# EAGLE library part POCKETBEAGLE (library OneHandedPiano)
PocketBeagle
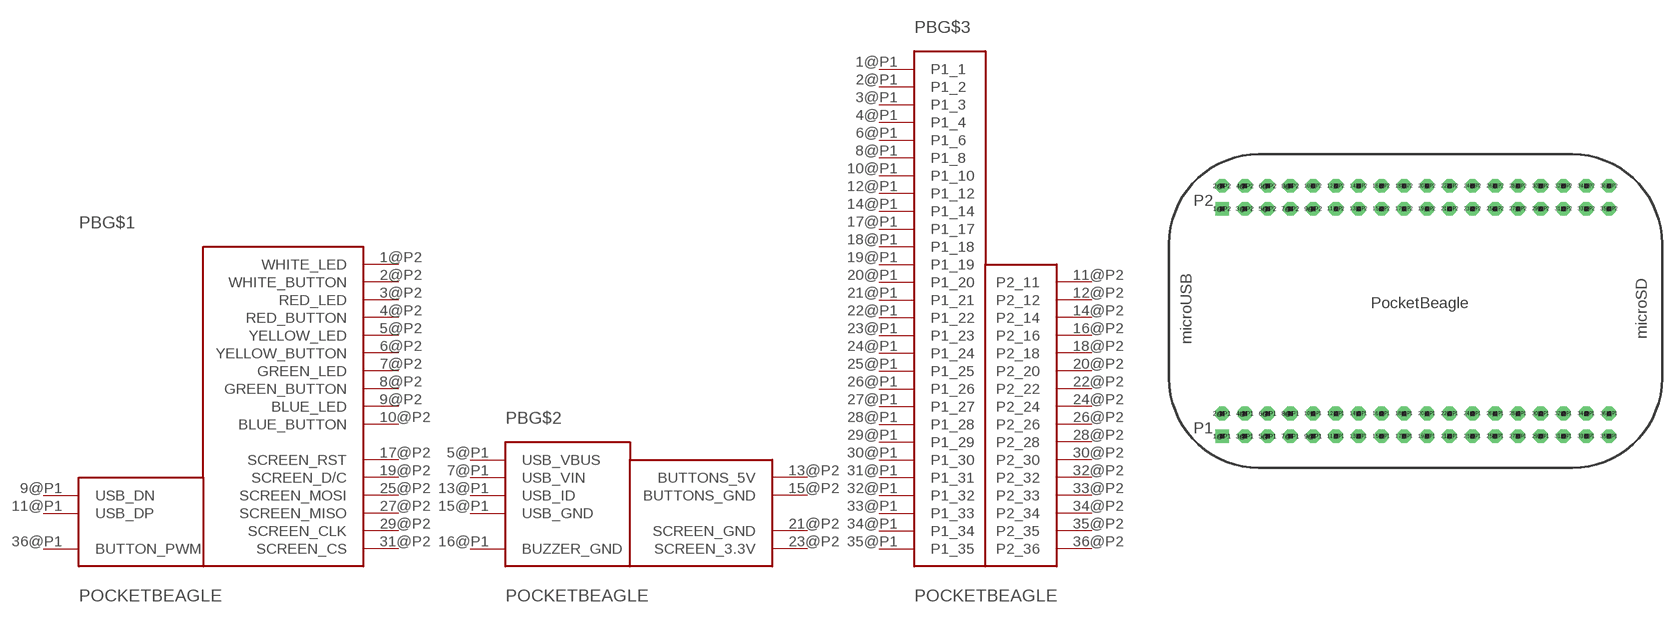
[diagram p1: symbol with the pads of POCKETBEAGLE; footprint POCKETBEAGLE]

Designator prefix PB; gates G$1=POCKETBEAGLE_SIGNALS G$2=POCKETBEAGLE_PWR G$3=POCKETBEAGLE_MISC

## POCKETBEAGLE  [POCKETBEAGLE]
1@P1  G$3:P1_1
1@P2  G$1:WHITE_LED
2@P1  G$3:P1_2
2@P2  G$1:WHITE_BUTTON
3@P1  G$3:P1_3
3@P2  G$1:RED_LED
4@P1  G$3:P1_4
4@P2  G$1:RED_BUTTON
5@P1  G$2:USB_VBUS
5@P2  G$1:YELLOW_LED
6@P1  G$3:P1_6
6@P2  G$1:YELLOW_BUTTON
7@P1  G$2:USB_VIN
7@P2  G$1:GREEN_LED
8@P1  G$3:P1_8
8@P2  G$1:GREEN_BUTTON
9@P1  G$1:USB_DN
9@P2  G$1:BLUE_LED
10@P1  G$3:P1_10
10@P2  G$1:BLUE_BUTTON
11@P1  G$1:USB_DP
11@P2  G$3:P2_11
12@P1  G$3:P1_12
12@P2  G$3:P2_12
13@P1  G$2:USB_ID
13@P2  G$2:BUTTONS_5V
14@P1  G$3:P1_14
14@P2  G$3:P2_14
15@P1  G$2:USB_GND
15@P2  G$2:BUTTONS_GND
16@P1  G$2:BUZZER_GND
16@P2  G$3:P2_16
17@P1  G$3:P1_17
17@P2  G$1:SCREEN_RST
18@P1  G$3:P1_18
18@P2  G$3:P2_18
19@P1  G$3:P1_19
19@P2  G$1:SCREEN_D/C
20@P1  G$3:P1_20
20@P2  G$3:P2_20
21@P1  G$3:P1_21
21@P2  G$2:SCREEN_GND
22@P1  G$3:P1_22
22@P2  G$3:P2_22
23@P1  G$3:P1_23
23@P2  G$2:SCREEN_3.3V
24@P1  G$3:P1_24
24@P2  G$3:P2_24
25@P1  G$3:P1_25
25@P2  G$1:SCREEN_MOSI
26@P1  G$3:P1_26
26@P2  G$3:P2_26
27@P1  G$3:P1_27
27@P2  G$1:SCREEN_MISO
28@P1  G$3:P1_28
28@P2  G$3:P2_28
29@P1  G$3:P1_29
29@P2  G$1:SCREEN_CLK
30@P1  G$3:P1_30
30@P2  G$3:P2_30
31@P1  G$3:P1_31
31@P2  G$1:SCREEN_CS
32@P1  G$3:P1_32
32@P2  G$3:P2_32
33@P1  G$3:P1_33
33@P2  G$3:P2_33
34@P1  G$3:P1_34
34@P2  G$3:P2_34
35@P1  G$3:P1_35
35@P2  G$3:P2_35
36@P1  G$1:BUTTON_PWM
36@P2  G$3:P2_36

## Footprint POCKETBEAGLE (pad centres in mm)
Package generated by make-group2pac.ulp from: /Users/Shannon/Downloads/PocketBeagle.brd at: 12/5/23 11:39 AM
drill 0.889 pad 1.524 square: 1@P1 5.91,3.53; 1@P2 5.91,28.93
drill 0.889 pad 1.524 octagon: 2@P1 5.91,6.07; 2@P2 5.91,31.47; 3@P1 8.45,3.53; 3@P2 8.45,28.93; 4@P1 8.45,6.07; 4@P2 8.45,31.47; 5@P1 10.99,3.53; 5@P2 10.99,28.93; 6@P1 10.99,6.07; 6@P2 10.99,31.47; 7@P1 13.53,3.53; 7@P2 13.53,28.93; 8@P1 13.53,6.07; 8@P2 13.53,31.47; 9@P1 16.07,3.53; 9@P2 16.07,28.93; 10@P1 16.07,6.07; 10@P2 16.07,31.47; 11@P1 18.61,3.53; 11@P2 18.61,28.93; 12@P1 18.61,6.07; 12@P2 18.61,31.47; 13@P1 21.15,3.53; 13@P2 21.15,28.93; 14@P1 21.15,6.07; 14@P2 21.15,31.47; 15@P1 23.69,3.53; 15@P2 23.69,28.93; 16@P1 23.69,6.07; 16@P2 23.69,31.47; 17@P1 26.23,3.53; 17@P2 26.23,28.93; 18@P1 26.23,6.07; 18@P2 26.23,31.47; 19@P1 28.77,3.53; 19@P2 28.77,28.93; 20@P1 28.77,6.07; 20@P2 28.77,31.47; 21@P1 31.31,3.53; 21@P2 31.31,28.93; 22@P1 31.31,6.07; 22@P2 31.31,31.47; 23@P1 33.85,3.53; 23@P2 33.85,28.93; 24@P1 33.85,6.07; 24@P2 33.85,31.47; 25@P1 36.39,3.53; 25@P2 36.39,28.93; 26@P1 36.39,6.07; 26@P2 36.39,31.47; 27@P1 38.93,3.53; 27@P2 38.93,28.93; 28@P1 38.93,6.07; 28@P2 38.93,31.47; 29@P1 41.47,3.53; 29@P2 41.47,28.93; 30@P1 41.47,6.07; 30@P2 41.47,31.47; 31@P1 44.01,3.53; 31@P2 44.01,28.93; 32@P1 44.01,6.07; 32@P2 44.01,31.47; 33@P1 46.55,3.53; 33@P2 46.55,28.93; 34@P1 46.55,6.07; 34@P2 46.55,31.47; 35@P1 49.09,3.53; 35@P2 49.09,28.93; 36@P1 49.09,6.07; 36@P2 49.09,31.47